# Altium schematic symbol library Transistor_Array.SchLib: 24 symbols
Pins are listed as number, name and electrical type; pins without a type are passive.

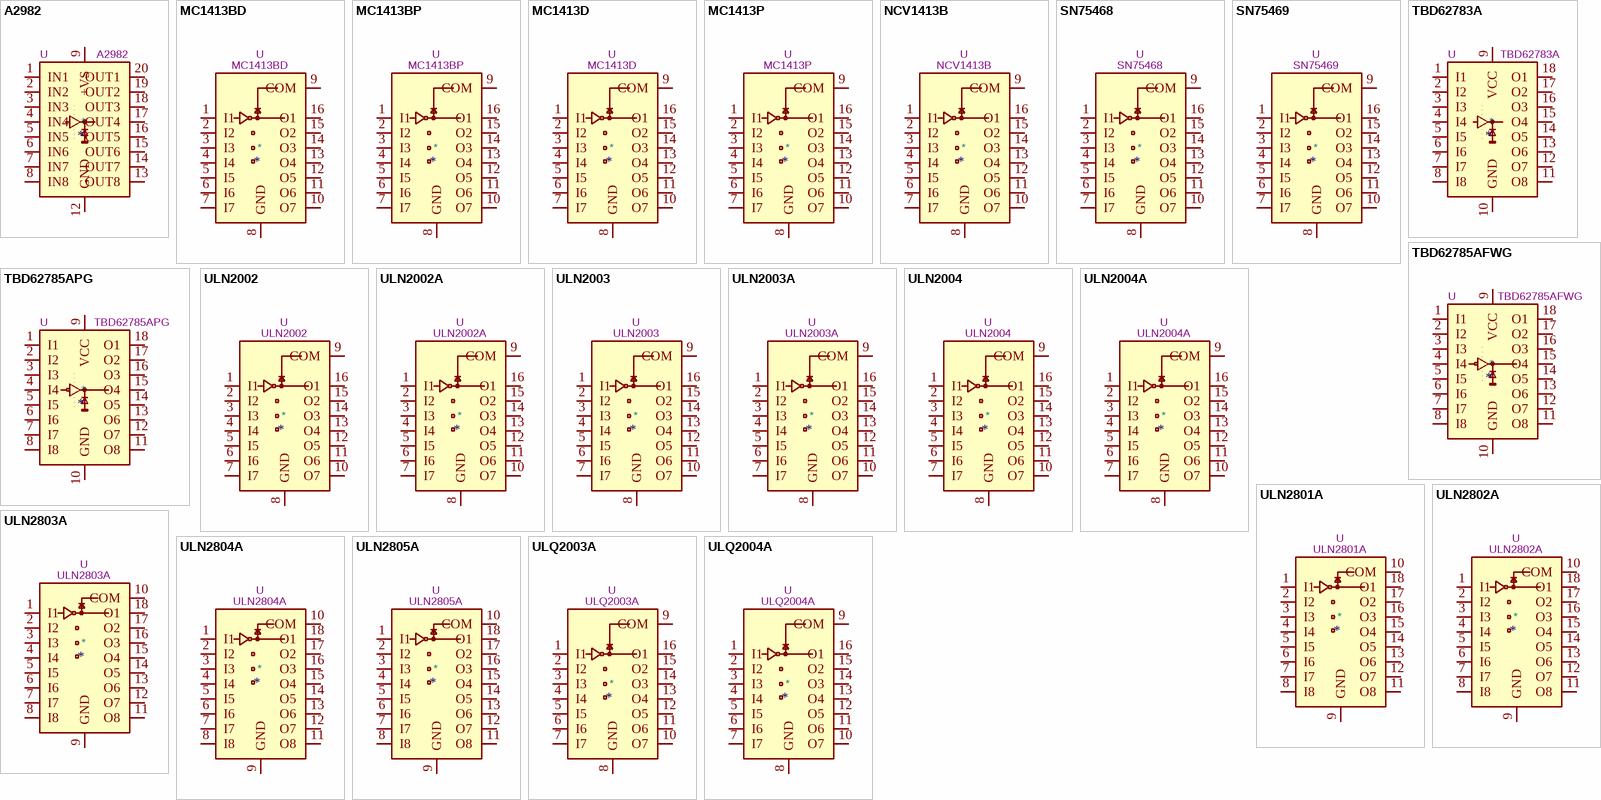
[diagram p0: symbols A2982 to ULQ2004A]

## A2982
designator *  value A2982  Reference: U
ki_keywords: relays solenoids lamps steppers servos LEDs; ki_description: 8-Channel Source Driver, TTL DTL, PMOS or CMOS compatible, 500mA 50V output, SOIC-20W; ki_fp_filters: SOIC*20W*7.5x12.8mm*P1.27mm*; Footprint: Package_SO:SOIC-20W_7.5x12.8mm_P1.27mm; Datasheet: https://www.allegromicro.com/~/media/Files/Datasheets/A2981-2-Datasheet.ashx
pins: 1 IN1, 2 IN2, 3 IN3, 4 IN4, 5 IN5, 6 IN6, 7 IN7, 8 IN8, 9 +VS, 10 NC hidden, 11 NC hidden, 12 GND, 13 OUT8, 14 OUT7, 15 OUT6, 16 OUT5, 17 OUT4, 18 OUT3, 19 OUT2, 20 OUT1

## MC1413BD
designator *  value MC1413BD  Reference: U
ki_keywords: darlington transistor array; ki_description: High Voltage, High Current Darlington Transistor Arrays,  TTL/CMOS-compatible, SOIC-16; ki_fp_filters: SOIC*3.9x9.9mm*P1.27mm*; Footprint: Package_SO:SOIC-16_3.9x9.9mm_P1.27mm; Datasheet: http://www.onsemi.com/pub_link/Collateral/MC1413-D.PDF
pins: 1 I1, 2 I2, 3 I3, 4 I4, 5 I5, 6 I6, 7 I7, 8 GND, 9 COM, 10 O7, 11 O6, 12 O5, 13 O4, 14 O3, 15 O2, 16 O1

## MC1413BP
designator *  value MC1413BP  Reference: U
ki_keywords: darlington transistor array; ki_description: High Voltage, High Current Darlington Transistor Arrays,  TTL/CMOS-compatible, PDIP-16; ki_fp_filters: DIP*W7.62mm*; Footprint: Package_DIP:DIP-16_W7.62mm; Datasheet: http://www.onsemi.com/pub_link/Collateral/MC1413-D.PDF
pins: 1 I1, 2 I2, 3 I3, 4 I4, 5 I5, 6 I6, 7 I7, 8 GND, 9 COM, 10 O7, 11 O6, 12 O5, 13 O4, 14 O3, 15 O2, 16 O1

## MC1413D
designator *  value MC1413D  Reference: U
ki_keywords: darlington transistor array; ki_description: High Voltage, High Current Darlington Transistor Arrays, SOIC-16; ki_fp_filters: SOIC*3.9x9.9mm*P1.27mm*; Footprint: Package_SO:SOIC-16_3.9x9.9mm_P1.27mm; Datasheet: http://www.onsemi.com/pub_link/Collateral/MC1413-D.PDF
pins: 1 I1, 2 I2, 3 I3, 4 I4, 5 I5, 6 I6, 7 I7, 8 GND, 9 COM, 10 O7, 11 O6, 12 O5, 13 O4, 14 O3, 15 O2, 16 O1

## MC1413P
designator *  value MC1413P  Reference: U
ki_keywords: darlington transistor array; ki_description: High Voltage, High Current Darlington Transistor Arrays, PDIP-16; ki_fp_filters: DIP*W7.62mm*; Footprint: Package_DIP:DIP-16_W7.62mm; Datasheet: http://www.onsemi.com/pub_link/Collateral/MC1413-D.PDF
pins: 1 I1, 2 I2, 3 I3, 4 I4, 5 I5, 6 I6, 7 I7, 8 GND, 9 COM, 10 O7, 11 O6, 12 O5, 13 O4, 14 O3, 15 O2, 16 O1

## NCV1413B
designator *  value NCV1413B  Reference: U
ki_keywords: darlington transistor array; ki_description: High Voltage, High Current Darlington Transistor Arrays,  TTL/CMOS-compatible, SOIC-16; ki_fp_filters: SOIC*3.9x9.9mm*P1.27mm*; Footprint: Package_SO:SOIC-16_3.9x9.9mm_P1.27mm; Datasheet: http://www.onsemi.com/pub_link/Collateral/MC1413-D.PDF
pins: 1 I1, 2 I2, 3 I3, 4 I4, 5 I5, 6 I6, 7 I7, 8 GND, 9 COM, 10 O7, 11 O6, 12 O5, 13 O4, 14 O3, 15 O2, 16 O1

## SN75468
designator *  value SN75468  Reference: U
ki_keywords: darlington transistor array; ki_description: Higher Voltage, High Current Darlington Transistor Arrays, 5V CMOS/TTL-compatible input, SOIC16/SOIC16W/DIP16; ki_fp_filters: DIP*W7.62mm* SOIC*3.9x9.9mm*P1.27mm* SOIC*W*5.3x10.2mm*P1.27mm*; Datasheet: http://www.ti.com/lit/ds/slrs023e/slrs023e.pdf
pins: 1 I1, 2 I2, 3 I3, 4 I4, 5 I5, 6 I6, 7 I7, 8 GND, 9 COM, 10 O7, 11 O6, 12 O5, 13 O4, 14 O3, 15 O2, 16 O1

## SN75469
designator *  value SN75469  Reference: U
ki_keywords: darlington transistor array; ki_description: Higher Voltage, High Current Darlington Transistor Arrays, 6-15V CMOS/PMOS-compatible input, SOIC16/SOIC16W/DIP16; ki_fp_filters: DIP*W7.62mm* SOIC*3.9x9.9mm*P1.27mm* SOIC*W*5.3x10.2mm*P1.27mm*; Datasheet: http://www.ti.com/lit/ds/slrs023e/slrs023e.pdf
pins: 1 I1, 2 I2, 3 I3, 4 I4, 5 I5, 6 I6, 7 I7, 8 GND, 9 COM, 10 O7, 11 O6, 12 O5, 13 O4, 14 O3, 15 O2, 16 O1

## TBD62783A
designator *  value TBD62783A  Reference: U
ki_keywords: relays solenoids lamps steppers servos LEDs; ki_description: 8-Channel Source Type Transistor Array, TTL and CMOS compatible, 500mA, 50V, DIP-18/SOP-18/SSOP-18/SOIC-18W; ki_fp_filters: DIP*W7.62mm* SOP*7.0x12.5mm*P1.27mm* SSOP*4.4x6.5mm*P0.65mm* SOIC*7.5x11.6mm*P1.27mm*; Datasheet: http://toshiba.semicon-storage.com/info/docget.jsp?did=30523&prodName=TBD62783APG
pins: 1 I1, 2 I2, 3 I3, 4 I4, 5 I5, 6 I6, 7 I7, 8 I8, 9 VCC, 10 GND, 11 O8, 12 O7, 13 O6, 14 O5, 15 O4, 16 O3, 17 O2, 18 O1

## TBD62785AFWG
designator *  value TBD62785AFWG  Reference: U
ki_keywords: relays solenoids lamps steppers servos LEDs; ki_description: 8-Channel Source Type Transistor Array, TTL and CMOS compatible, 500mA, 50V, SOP-18-18W; ki_fp_filters: SOP*7.495x11.515mm*P1.27mm*; Footprint: Package_SO:SOP-18_7.495x11.515mm_P1.27mm; Datasheet: https://toshiba.semicon-storage.com/info/TBD62785AFWG_datasheet_en_20170530.pdf?did=58399&prodName=TBD62785AFWG
pins: 1 I1, 2 I2, 3 I3, 4 I4, 5 I5, 6 I6, 7 I7, 8 I8, 9 VCC, 10 GND, 11 O8, 12 O7, 13 O6, 14 O5, 15 O4, 16 O3, 17 O2, 18 O1

## TBD62785APG
designator *  value TBD62785APG  Reference: U
ki_keywords: relays solenoids lamps steppers servos LEDs; ki_description: 8-Channel Source Type Transistor Array, TTL and CMOS compatible, 500mA, 50V, DIP-18-18W; ki_fp_filters: DIP*W7.62mm*; Footprint: Package_DIP:DIP-18_W7.62mm; Datasheet: https://toshiba.semicon-storage.com/info/TBD62785APG_datasheet_en_20170530.pdf?did=58399&prodName=TBD62785APG
pins: 1 I1, 2 I2, 3 I3, 4 I4, 5 I5, 6 I6, 7 I7, 8 I8, 9 VCC, 10 GND, 11 O8, 12 O7, 13 O6, 14 O5, 15 O4, 16 O3, 17 O2, 18 O1

## ULN2002
designator *  value ULN2002  Reference: U
ki_keywords: darlington transistor array; ki_description: High Voltage, High Current Darlington Transistor Arrays, SOIC16/SOIC16W/DIP16/TSSOP16; ki_fp_filters: DIP*W7.62mm* SOIC*3.9x9.9mm*P1.27mm* SSOP*4.4x5.2mm*P0.65mm* TSSOP*4.4x5mm*P0.65mm* SOIC*W*5.3x10.2mm*P1.27mm*; Datasheet: http://www.ti.com/lit/ds/symlink/uln2003a.pdf
pins: 1 I1, 2 I2, 3 I3, 4 I4, 5 I5, 6 I6, 7 I7, 8 GND, 9 COM, 10 O7, 11 O6, 12 O5, 13 O4, 14 O3, 15 O2, 16 O1

## ULN2002A
designator *  value ULN2002A  Reference: U
ki_keywords: darlington transistor array; ki_description: High Voltage, High Current Darlington Transistor Arrays, SOIC16/SOIC16W/DIP16/TSSOP16; ki_fp_filters: DIP*W7.62mm* SOIC*3.9x9.9mm*P1.27mm* SSOP*4.4x5.2mm*P0.65mm* TSSOP*4.4x5mm*P0.65mm* SOIC*W*5.3x10.2mm*P1.27mm*; Datasheet: http://www.ti.com/lit/ds/symlink/uln2003a.pdf
pins: 1 I1, 2 I2, 3 I3, 4 I4, 5 I5, 6 I6, 7 I7, 8 GND, 9 COM, 10 O7, 11 O6, 12 O5, 13 O4, 14 O3, 15 O2, 16 O1

## ULN2003
designator *  value ULN2003  Reference: U
ki_keywords: darlington transistor array; ki_description: High Voltage, High Current Darlington Transistor Arrays, SOIC16/SOIC16W/DIP16/TSSOP16; ki_fp_filters: DIP*W7.62mm* SOIC*3.9x9.9mm*P1.27mm* SSOP*4.4x5.2mm*P0.65mm* TSSOP*4.4x5mm*P0.65mm* SOIC*W*5.3x10.2mm*P1.27mm*; Datasheet: http://www.ti.com/lit/ds/symlink/uln2003a.pdf
pins: 1 I1, 2 I2, 3 I3, 4 I4, 5 I5, 6 I6, 7 I7, 8 GND, 9 COM, 10 O7, 11 O6, 12 O5, 13 O4, 14 O3, 15 O2, 16 O1

## ULN2003A
designator *  value ULN2003A  Reference: U
ki_keywords: darlington transistor array; ki_description: High Voltage, High Current Darlington Transistor Arrays, SOIC16/SOIC16W/DIP16/TSSOP16; ki_fp_filters: DIP*W7.62mm* SOIC*3.9x9.9mm*P1.27mm* SSOP*4.4x5.2mm*P0.65mm* TSSOP*4.4x5mm*P0.65mm* SOIC*W*5.3x10.2mm*P1.27mm*; Datasheet: http://www.ti.com/lit/ds/symlink/uln2003a.pdf
pins: 1 I1, 2 I2, 3 I3, 4 I4, 5 I5, 6 I6, 7 I7, 8 GND, 9 COM, 10 O7, 11 O6, 12 O5, 13 O4, 14 O3, 15 O2, 16 O1

## ULN2004
designator *  value ULN2004  Reference: U
ki_keywords: darlington transistor array; ki_description: High Voltage, High Current Darlington Transistor Arrays, SOIC16/SOIC16W/DIP16/TSSOP16; ki_fp_filters: DIP*W7.62mm* SOIC*3.9x9.9mm*P1.27mm* SSOP*4.4x5.2mm*P0.65mm* TSSOP*4.4x5mm*P0.65mm* SOIC*W*5.3x10.2mm*P1.27mm*; Datasheet: http://www.ti.com/lit/ds/symlink/uln2003a.pdf
pins: 1 I1, 2 I2, 3 I3, 4 I4, 5 I5, 6 I6, 7 I7, 8 GND, 9 COM, 10 O7, 11 O6, 12 O5, 13 O4, 14 O3, 15 O2, 16 O1

## ULN2004A
designator *  value ULN2004A  Reference: U
ki_keywords: darlington transistor array; ki_description: High Voltage, High Current Darlington Transistor Arrays, SOIC16/SOIC16W/DIP16/TSSOP16; ki_fp_filters: DIP*W7.62mm* SOIC*3.9x9.9mm*P1.27mm* SSOP*4.4x5.2mm*P0.65mm* TSSOP*4.4x5mm*P0.65mm* SOIC*W*5.3x10.2mm*P1.27mm*; Datasheet: http://www.ti.com/lit/ds/symlink/uln2003a.pdf
pins: 1 I1, 2 I2, 3 I3, 4 I4, 5 I5, 6 I6, 7 I7, 8 GND, 9 COM, 10 O7, 11 O6, 12 O5, 13 O4, 14 O3, 15 O2, 16 O1

## ULN2801A
designator *  value ULN2801A  Reference: U
ki_keywords: darlington transistor array; ki_description: Darlington Transistor Arrays, SOIC18/DIP18; ki_fp_filters: DIP*W7.62mm* SOIC*7.5x11.6mm*P1.27mm*; Datasheet: http://www.promelec.ru/pdf/1536.pdf
pins: 1 I1, 2 I2, 3 I3, 4 I4, 5 I5, 6 I6, 7 I7, 8 I8, 9 GND, 10 COM, 11 O8, 12 O7, 13 O6, 14 O5, 15 O4, 16 O3, 17 O2, 18 O1

## ULN2802A
designator *  value ULN2802A  Reference: U
ki_keywords: darlington transistor array; ki_description: Darlington Transistor Arrays, SOIC18/DIP18; ki_fp_filters: DIP*W7.62mm* SOIC*7.5x11.6mm*P1.27mm*; Datasheet: http://www.promelec.ru/pdf/1536.pdf
pins: 1 I1, 2 I2, 3 I3, 4 I4, 5 I5, 6 I6, 7 I7, 8 I8, 9 GND, 10 COM, 11 O8, 12 O7, 13 O6, 14 O5, 15 O4, 16 O3, 17 O2, 18 O1

## ULN2803A
designator *  value ULN2803A  Reference: U
ki_keywords: Darlington transistor array; ki_description: Darlington Transistor Arrays, SOIC18/DIP18; ki_fp_filters: DIP*W7.62mm* SOIC*7.5x11.6mm*P1.27mm*; Datasheet: http://www.ti.com/lit/ds/symlink/uln2803a.pdf
pins: 1 I1, 2 I2, 3 I3, 4 I4, 5 I5, 6 I6, 7 I7, 8 I8, 9 GND, 10 COM, 11 O8, 12 O7, 13 O6, 14 O5, 15 O4, 16 O3, 17 O2, 18 O1

## ULN2804A
designator *  value ULN2804A  Reference: U
ki_keywords: darlington transistor array; ki_description: Darlington Transistor Arrays, SOIC18/DIP18; ki_fp_filters: DIP*W7.62mm* SOIC*7.5x11.6mm*P1.27mm*; Datasheet: http://www.promelec.ru/pdf/1536.pdf
pins: 1 I1, 2 I2, 3 I3, 4 I4, 5 I5, 6 I6, 7 I7, 8 I8, 9 GND, 10 COM, 11 O8, 12 O7, 13 O6, 14 O5, 15 O4, 16 O3, 17 O2, 18 O1

## ULN2805A
designator *  value ULN2805A  Reference: U
ki_keywords: darlington transistor array; ki_description: Darlington Transistor Arrays, SOIC18/DIP18; ki_fp_filters: DIP*W7.62mm* SOIC*7.5x11.6mm*P1.27mm*; Datasheet: http://www.promelec.ru/pdf/1536.pdf
pins: 1 I1, 2 I2, 3 I3, 4 I4, 5 I5, 6 I6, 7 I7, 8 I8, 9 GND, 10 COM, 11 O8, 12 O7, 13 O6, 14 O5, 15 O4, 16 O3, 17 O2, 18 O1

## ULQ2003A
designator *  value ULQ2003A  Reference: U
ki_keywords: darlington transistor array; ki_description: High Voltage, High Current Darlington Transistor Arrays, SOIC16W/TSSOP16; ki_fp_filters: DIP*W7.62mm* SOIC*3.9x9.9mm*P1.27mm* SSOP*4.4x5.2mm*P0.65mm* TSSOP*4.4x5mm*P0.65mm* SOIC*W*5.3x10.2mm*P1.27mm*; Datasheet: http://www.ti.com/lit/ds/symlink/uln2003a.pdf
pins: 1 I1, 2 I2, 3 I3, 4 I4, 5 I5, 6 I6, 7 I7, 8 GND, 9 COM, 10 O7, 11 O6, 12 O5, 13 O4, 14 O3, 15 O2, 16 O1

## ULQ2004A
designator *  value ULQ2004A  Reference: U
ki_keywords: darlington transistor array; ki_description: High Voltage, High Current Darlington Transistor Arrays, SOIC16W/TSSOP16; ki_fp_filters: DIP*W7.62mm* SOIC*3.9x9.9mm*P1.27mm* SSOP*4.4x5.2mm*P0.65mm* TSSOP*4.4x5mm*P0.65mm* SOIC*W*5.3x10.2mm*P1.27mm*; Datasheet: http://www.ti.com/lit/ds/symlink/uln2003a.pdf
pins: 1 I1, 2 I2, 3 I3, 4 I4, 5 I5, 6 I6, 7 I7, 8 GND, 9 COM, 10 O7, 11 O6, 12 O5, 13 O4, 14 O3, 15 O2, 16 O1